# EAGLE library part YAMAICHI (library yamaichi-ic51-0844-401)
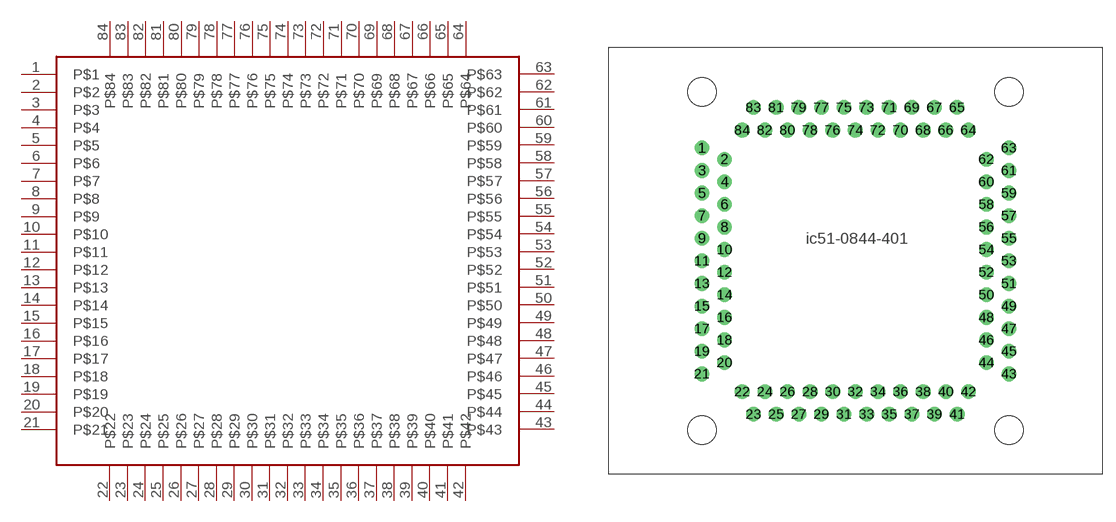
[diagram p0: symbol with the pads of YAMAICHI-IC51-0844-401; footprint YAMAICHI-IC51-0844-401]

Designator prefix -

## YAMAICHI  [YAMAICHI-IC51-0844-401]
1  P$1
2  P$2
3  P$3
4  P$4
5  P$5
6  P$6
7  P$7
8  P$8
9  P$9
10  P$10
11  P$11
12  P$12
13  P$13
14  P$14
15  P$15
16  P$16
17  P$17
18  P$18
19  P$19
20  P$20
21  P$21
22  P$22
23  P$23
24  P$24
25  P$25
26  P$26
27  P$27
28  P$28
29  P$29
30  P$30
31  P$31
32  P$32
33  P$33
34  P$34
35  P$35
36  P$36
37  P$37
38  P$38
39  P$39
40  P$40
41  P$41
42  P$42
43  P$43
44  P$44
45  P$45
46  P$46
47  P$47
48  P$48
49  P$49
50  P$50
51  P$51
52  P$52
53  P$53
54  P$54
55  P$55
56  P$56
57  P$57
58  P$58
59  P$59
60  P$60
61  P$61
62  P$62
63  P$63
64  P$64
65  P$65
66  P$66
67  P$67
68  P$68
69  P$69
70  P$70
71  P$71
72  P$72
73  P$73
74  P$74
75  P$75
76  P$76
77  P$77
78  P$78
79  P$79
80  P$80
81  P$81
82  P$82
83  P$83
84  P$84

## Footprint YAMAICHI-IC51-0844-401 (pad centres in mm)
drill 1.1 round: 1 -17.24,12.7; 2 -14.7,11.43; 3 -17.24,10.16; 4 -14.7,8.89; 5 -17.24,7.62; 6 -14.7,6.35; 7 -17.24,5.08; 8 -14.7,3.81; 9 -17.24,2.54; 10 -14.7,1.27; 11 -17.24,0; 12 -14.7,-1.27; 13 -17.24,-2.54; 14 -14.7,-3.81; 15 -17.24,-5.08; 16 -14.7,-6.35; 17 -17.24,-7.62; 18 -14.7,-8.89; 19 -17.24,-10.16; 20 -14.7,-11.43; 21 -17.24,-12.7; 22 -12.71,-14.7; 23 -11.44,-17.24; 24 -10.17,-14.7; 25 -8.9,-17.24; 26 -7.63,-14.7; 27 -6.36,-17.24; 28 -5.09,-14.7; 29 -3.82,-17.24; 30 -2.55,-14.7; 31 -1.28,-17.24; 32 -0.01,-14.7; 33 1.26,-17.24; 34 2.53,-14.7; 35 3.8,-17.24; 36 5.07,-14.7; 37 6.34,-17.24; 38 7.61,-14.7; 39 8.88,-17.24; 40 10.15,-14.7; 41 11.42,-17.24; 42 12.69,-14.7; 43 17.24,-12.7; 44 14.7,-11.43; 45 17.24,-10.16; 46 14.7,-8.89; 47 17.24,-7.62; 48 14.7,-6.35; 49 17.24,-5.08; 50 14.7,-3.81; 51 17.24,-2.54; 52 14.7,-1.27; 53 17.24,0; 54 14.7,1.27; 55 17.24,2.54; 56 14.7,3.81; 57 17.24,5.08; 58 14.7,6.35; 59 17.24,7.62; 60 14.7,8.89; 61 17.24,10.16; 62 14.7,11.43; 63 17.24,12.7; 64 12.68,14.7; 65 11.41,17.24; 66 10.14,14.7; 67 8.87,17.24; 68 7.6,14.7; 69 6.33,17.24; 70 5.06,14.7; 71 3.79,17.24; 72 2.52,14.7; 73 1.25,17.24; 74 -0.02,14.7; 75 -1.29,17.24; 76 -2.56,14.7; 77 -3.83,17.24; 78 -5.1,14.7; 79 -6.37,17.24; 80 -7.64,14.7; 81 -8.91,17.24; 82 -10.18,14.7; 83 -11.45,17.24; 84 -12.72,14.7
hole 3.2 at -17.24,-19
hole 3.2 at 17.24,-19
hole 3.2 at 17.24,19
hole 3.2 at -17.24,19